# Altium integrated library BUG.IntLib: 24 symbols
Pins are listed as number, name and electrical type; pins without a type are passive.

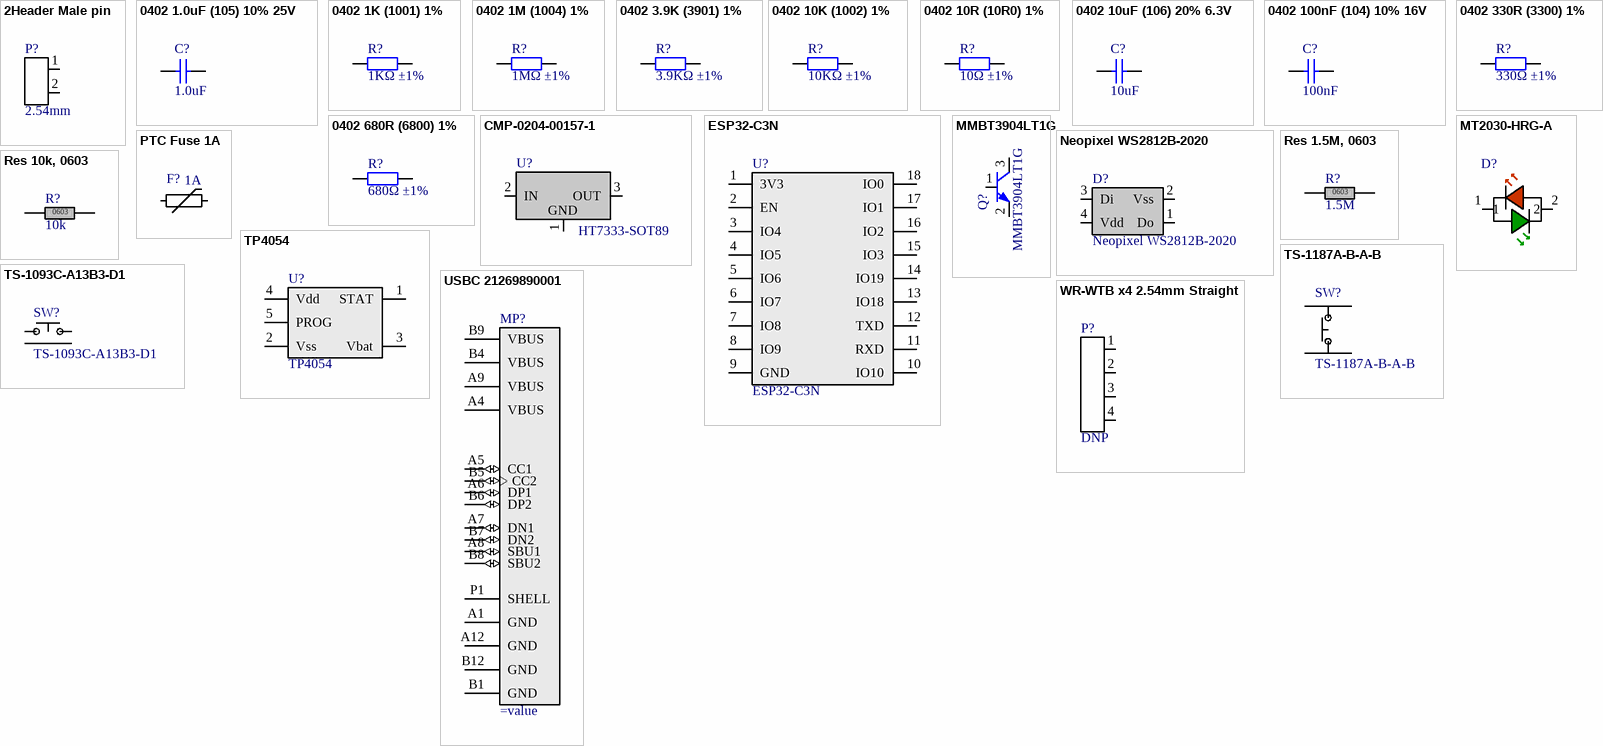
[diagram p0: symbols 2Header Male pin to WR-WTB x4 2.54mm Straight]

## 2Header Male pin
designator P?, comment 2.54mm
TH, 2Pos, 2.54mm Pitch; Manufacturer: TE; Product Code: 640457-2; Supplier 1: JLCPCB; Supplier 1 Number: C86507; Created By: Koen van Remundt; Max Operating Temperature: 105°C; Date Created: 14-10-2021; Datasheet URL: https://datasheet.lcsc.com/lcsc/1811051111_TE-Connectivity-640457-2_C86507.pdf; Value: 2.54mm
footprint Wurth 61300211021 ([Last Edit: 19-04-20])
pins: 1, 2

## 0402 1.0uF (105) 10% 25V
designator C?, comment 1.0uF
Chip capacitor; Manufacturer: Samsung Electro-Mechanics; PartNumber: CL05A105KA5NQNC; Capacitance: 1uF; Tolerance: 10%; Voltage: 25V; ComponentLink1Description: Supplier link; ComponentLink1URL: http://www.szlcsc.com/product/details_53938.html; Package: 0402; Supplier: LC; SuppliersPartNumber: C52923
footprint 0402_C
pins: 1, 2

## 0402 1K (1001) 1%
designator R?, comment 1KΩ ±1%
Chip resistor; Manufacturer: Uniroyal Elec; PartNumber: 0402WGF1001TCE; Power: 1/16W; ComponentLink1Description: Supplier link; ComponentLink1URL: http://www.szlcsc.com/product/details_12256.html; Package: 0402; Supplier: LC; SuppliersPartNumber: C11702; Resistance: 1KΩ; Tolerance: 1%
footprint 0402_R
pins: 1, 2

## 0402 1M (1004) 1%
designator R?, comment 1MΩ ±1%
Chip resistor; Manufacturer: Uniroyal Elec; PartNumber: 0402WGF1004TCE; Power: 1/16W; ComponentLink1Description: Supplier link; ComponentLink1URL: http://www.szlcsc.com/product/details_26826.html; Package: 0402; Supplier: LC; SuppliersPartNumber: C26083; Resistance: 1MΩ; Tolerance: 1%
footprint 0402_R
pins: 1, 2

## 0402 3.9K (3901) 1%
designator R?, comment 3.9KΩ ±1%
Chip resistor; Manufacturer: Uniroyal Elec; PartNumber: 0402WGF3901TCE; Power: 1/16W; ComponentLink1Description: Supplier link; ComponentLink1URL: http://www.szlcsc.com/product/details_52734.html; Package: 0402; Supplier: LC; SuppliersPartNumber: C51721; Resistance: 3.9KΩ; Tolerance: 1%
footprint 0402_R
pins: 1, 2

## 0402 10K (1002) 1%
designator R?, comment 10KΩ ±1%
Chip resistor; Manufacturer: Uniroyal Elec; PartNumber: 0402WGF1002TCE; Power: 1/16W; ComponentLink1Description: Supplier link; ComponentLink1URL: http://www.szlcsc.com/product/details_26487.html; Package: 0402; Supplier: LC; SuppliersPartNumber: C25744; Resistance: 10KΩ; Tolerance: 1%
footprint 0402_R
pins: 1, 2

## 0402 10R (10R0) 1%
designator R?, comment 10Ω ±1%
Chip resistor; Manufacturer: Uniroyal Elec; PartNumber: 0402WGF100JTCE; Power: 1/16W; ComponentLink1Description: Supplier link; ComponentLink1URL: http://www.szlcsc.com/product/details_25820.html; Package: 0402; Supplier: LC; SuppliersPartNumber: C25077; Resistance: 10Ω; Tolerance: 1%
footprint 0402_R
pins: 1, 2

## 0402 10uF (106) 20% 6.3V
designator C?, comment 10uF
Chip capacitors; Manufacturer: Samsung Electro-Mechanics; PartNumber: CL05A106MQ5NUNC; Tolerance: 20%; Voltage: 6.3V; ComponentLink1Description: Supplier link; ComponentLink1URL: http://www.szlcsc.com/product/details_16204.html; Package: 0402; Supplier: LC; SuppliersPartNumber: C15525; Capacitance: 10uF
footprint 0402_C
pins: 1, 2

## 0402 100nF (104) 10% 16V
designator C?, comment 100nF
Chip capacitors; Manufacturer: Samsung Electro-Mechanics; PartNumber: CL05B104KO5NNNC; Tolerance: 10%; Voltage: 16V; ComponentLink1Description: Supplier link; ComponentLink1URL: http://www.szlcsc.com/product/details_1877.html; Package: 0402; Supplier: LC; SuppliersPartNumber: C1525; Capacitance: 100nF
footprint 0402_C
pins: 1, 2

## 0402 330R (3300) 1%
designator R?, comment 330Ω ±1%
Chip resistor; Manufacturer: Uniroyal Elec; PartNumber: 0402WGF3300TCE; Power: 1/16W; ComponentLink1Description: Supplier link; ComponentLink1URL: http://www.szlcsc.com/product/details_25847.html; Package: 0402; Supplier: LC; SuppliersPartNumber: C25104; Resistance: 330Ω; Tolerance: 1%
footprint 0402_R
pins: 1, 2

## 0402 680R (6800) 1%
designator R?, comment 680Ω ±1%
Chip resistor; Manufacturer: Uniroyal Elec; PartNumber: 0402WGF6800TCE; Power: 1/16W; ComponentLink1Description: Supplier link; ComponentLink1URL: http://www.szlcsc.com/product/details_25873.html; Package: 0402; Supplier: LC; SuppliersPartNumber: C25130; Resistance: 680Ω; Tolerance: 1%
footprint 0402_R
pins: 1, 2

## CMP-0204-00157-1
designator U?, comment HT7333-SOT89
Low Power Consumption LDO, Output Voltage 3.3V, SOT89 Pkg; DatasheetVersion: Rev1.4, Jan-2006; PackageVersion: May-2010; PackageReference: SOT89; Code_IPC: SOT89; PackageDescription: 3-Pin SOT-89 Package 1.5 mm Pitch, 4.1 mm Lead Span; Datasheet: https://datasheet.lcsc.com/lcsc/1811101813_Holtek-Semicon-HT7333-1_C77777.pdf
footprint SOT89_L (SOT89, 3-Leads, Body 4.5x2.4 mm, Pitch 1.5mm, Lead Span 4.1mm, IPC High Density)
footprint SOT89_N (SOT89, 3-Leads, Body 4.5x2.4 mm, Pitch 1.5mm, Lead Span 4.1mm, IPC Medium Density)
pins: 1 GND (power), 2 IN (power), 3 OUT (power)

## ESP32-C3N
designator U?
footprint ESP32-C3N
pins: 1 3V3, 2 EN, 3 IO4, 4 IO5, 5 IO6, 6 IO7, 7 IO8, 8 IO9, 9 GND, 10 IO10, 11 RXD, 12 TXD, 13 IO18, 14 IO19, 15 IO3, 16 IO2, 17 IO1, 18 IO0

## MMBT3904LT1G
designator Q?
ComponentLink1Description: Datasheet; ComponentLink1URL: https://assets.nexperia.com/documents/data-sheet/MMBT3904.pdf
footprint SOT-23-3-318-08_V (SOT23, 3-Leads, Body 3.04x1.4mm, Pitch 0.95mm)
pins: 1 B, 2 E, 3 C

## MT2030-HRG-A
designator D?
Dual LED inverted orange-green pins; Supplier: Mouser; Supplier Number: 193-MT2030-HRG-A; Created by: Koen van Remundt; Datasheet: https://nl.mouser.com/datasheet/2/1094/MT2030_HRG_A-2258170.pdf
footprint 3mm round lamp
pins: 1, 2

## Neopixel WS2812B-2020
designator D?
Supplier: Mouser; Supplier Number: 485-4684; Datasheet: https://nl.mouser.com/datasheet/2/737/4684_WS2812B_2020_V1_3_EN-1900866.pdf
footprint WS2812B-2020
pins: 1 Do, 2 Vss, 3 Di, 4 Vdd

## PTC Fuse 1A
designator F?, comment 1A
6V, 0805; Created By: Koen van Remundt; Date Created: 14-10-2021; Value: 1A; Footprint: 0805; Specs: 6V; Supplier E.g.: JLCPCB; Supplier E.g. Number: C66452; Datasheet: https://datasheet.lcsc.com/lcsc/1808132010_TECHFUSE-SMD0805-050_C66452.pdf
footprint Cap 0805 ([Last Edit: 19-05-2019])
pins: 1, 2

## Res 1.5M, 0603
designator R?, comment 1.5M
1%, >100mW; Created By: Koen van Remundt; Date Created: 15-10-2021; Value: 1.5M; Footprint: 0603; Specs: 1%, >100mW; Datasheet: https://datasheet.lcsc.com/lcsc/1811081713_UNI-ROYAL-Uniroyal-Elec-0603WAF6800T5E_C23228.pdf; Supplier: JLCPCB; Supplier Number: C4172
footprint Res 0603 ([Last Edit: 19-05-19])
pins: 1, 2

## Res 10k, 0603
designator R?, comment 10k
1%, >100mW; Specs: 1%, >50V, >100mW; Created By: Koen van Remundt; Date Created: 02-08-2021; Value: 10k; Footprint: 0603; Datasheet: https://datasheet.lcsc.com/lcsc/1811062009_UNI-ROYAL-Uniroyal-Elec-0603WAF1002T5E_C25804.pdf; Supplier: JLCPCB; Supplier Number: C25804
footprint Res 0603 ([Last Edit: 19-05-19])
pins: 1, 2

## TP4054
designator U?
3.7V Li-Po charger; Manufacturer: Microchip; Product Code: TP4054; Created By: Koen van Remundt; Max Operating Temperature: 85°C; Date Created: 05-10-2021; Datasheet URL: https://datasheet.lcsc.com/lcsc/1809261814_TOPPOWER-Nanjing-Extension-Microelectronics-TP4054_C32574.pdf; Value: TP4054; Supplier 1: JLCPCB; Supplier 1 number: C32574
footprint SOT 23-5 ([Last Edit: 19-05-19])
pins: 1 STAT, 2 Vss, 3 Vbat, 4 Vdd, 5 PROG

## TS-1093C-A13B3-D1
designator SW?
ComponentLink1Description: Datasheet; ComponentLink1URL: https://datasheet.lcsc.com/lcsc/2003171934_Yuandi-TS-1093C-A10B3-D1_C493053.pdf
footprint TS-1093C-A13B3-D1
pins: 0, 1, 2 Case, 3 Case

## TS-1187A-B-A-B
designator SW?
ComponentLink1Description: Datasheet; ComponentLink1URL: https://datasheet.lcsc.com/lcsc/2002271431_XKB-Connectivity-TS-1187A-B-A-B_C318884.pdf
footprint TS-1187A-B-A-B
pins: A 4, B 5, C 7, D 6

## USBC 21269890001
designator MP?
Vertical USB2.0 C connector; Manufacturer number: 216989-0001; Supplier: Mouser; Supplier number: 538-216989-0001; Datasheet URL: https://www.molex.com/pdm_docs/sd/2169890001_sd.pdf
footprint USBC 2169890001_sd
pins: A1 GND (power), A4 VBUS (power), A5 CC1 (io), A6 DP1 (io), A7 DN1 (io), A8 SBU1 (io), A9 VBUS (power), A12 GND (power), B1 GND, B4 VBUS (power), B5 CC2 (io), B6 DP2 (io), B7 DN2 (io), B8 SBU2 (io), B9 VBUS (power), B12 GND (power), P1 SHELL

## WR-WTB x4 2.54mm Straight
designator P?, comment DNP
TH, 4Pos, 2.54mm Pitch, 0.08-0.33mm², 3A; Manufacturer: Wurth; Product Code: 61900411121; Supplier 1: Wurth; Supplier 1 Number: 61900411121; Created By: Koen van Remundt; Max Operating Temperature: 105°C; Date Created: 03-06-2019; Datasheet URL: https://katalog.we-online.com/em/datasheet/61900411121.pdf; Value: 2.54mm
footprint Wurth 61900411121 ([Last Edit: 03-06-19])
pins: 1, 2, 3, 4